# Altium schematic symbol library BBeams.SCHLIB: 2 symbols
Pins are listed as number, name and electrical type; pins without a type are passive.

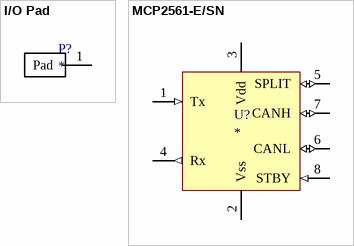
[diagram p0: symbols I/O Pad to MCP2561-E/SN]

## I/O Pad
designator P?
footprint I/O Pad (Basic rectangular point for soldering high current I/O)
pins: 1 Pad

## MCP2561-E/SN
designator U?
pins: 1 Tx (in), 2 Vss (power), 3 Vdd (power), 4 Rx (out), 5 SPLIT (io), 6 CANL (io), 7 CANH (io), 8 STBY (in)